# Altium schematic symbol library 100046138_output_control.SchLib: 27 symbols
Pins are listed as number, name and electrical type; pins without a type are passive.

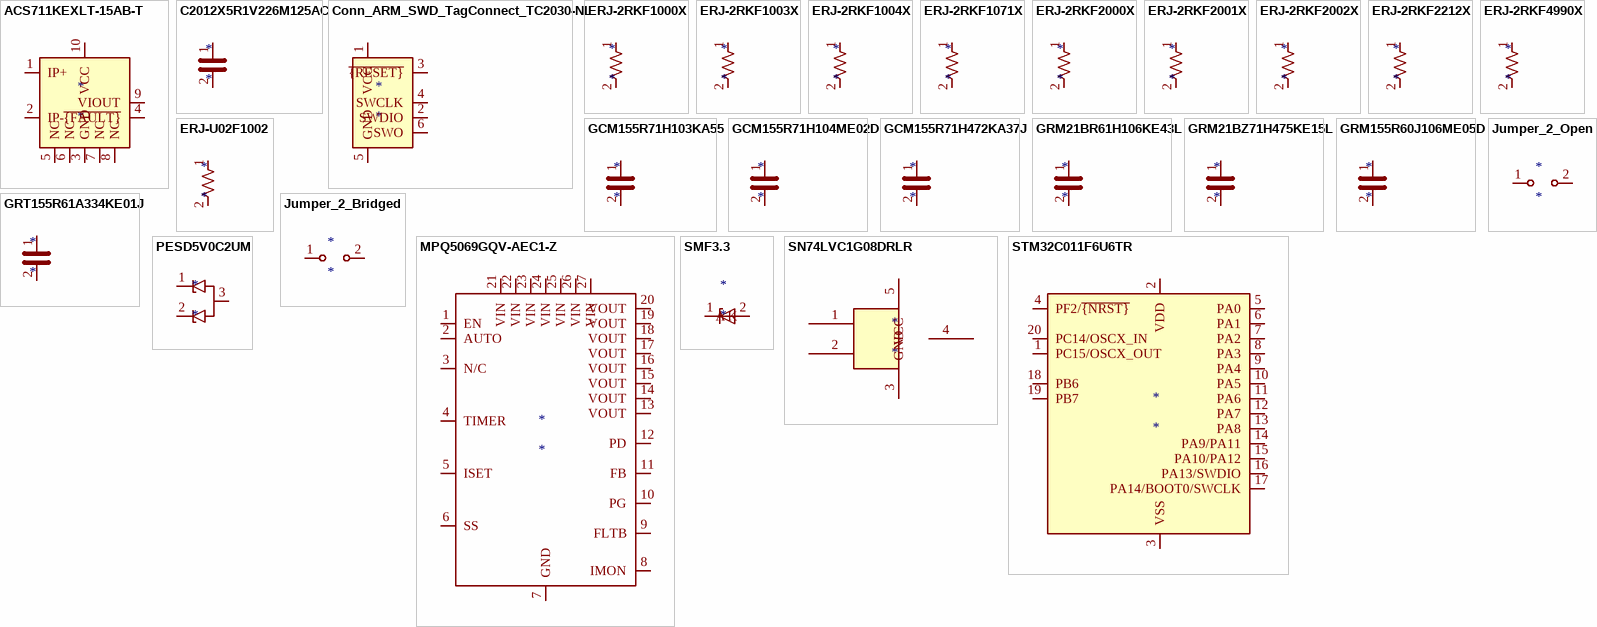
[diagram p0: symbols ACS711KEXLT-15AB-T to STM32C011F6U6TR]

## ACS711KEXLT-15AB-T
designator *
pins: 1 IP+, 2 IP-, 3 GND, 4 ~{{FAULT}}, 5 NC, 6 NC, 7 NC, 8 NC, 9 VIOUT, 10 VCC

## C2012X5R1V226M125AC
designator *
pins: 1, 2

## Conn_ARM_SWD_TagConnect_TC2030-NL
designator *
pins: 1 VCC, 2 SWDIO, 3 ~{{RESET}}, 4 SWCLK, 5 GND, 6 SWO

## ERJ-2RKF1000X
designator *
pins: 1, 2

## ERJ-2RKF1003X
designator *
pins: 1, 2

## ERJ-2RKF1004X
designator *
pins: 1, 2

## ERJ-2RKF1071X
designator *
pins: 1, 2

## ERJ-2RKF2000X
designator *
pins: 1, 2

## ERJ-2RKF2001X
designator *
pins: 1, 2

## ERJ-2RKF2002X
designator *
pins: 1, 2

## ERJ-2RKF2212X
designator *
pins: 1, 2

## ERJ-2RKF4990X
designator *
pins: 1, 2

## ERJ-U02F1002
designator *
pins: 1, 2

## GCM155R71H103KA55
designator *
pins: 1, 2

## GCM155R71H104ME02D
designator *
pins: 1, 2

## GCM155R71H472KA37J
designator *
pins: 1, 2

## GRM21BR61H106KE43L
designator *
pins: 1, 2

## GRM21BZ71H475KE15L
designator *
pins: 1, 2

## GRM155R60J106ME05D
designator *
pins: 1, 2

## GRT155R61A334KE01J
designator *
pins: 1, 2

## Jumper_2_Bridged
designator *
pins: 1 A, 2 B

## Jumper_2_Open
designator *
pins: 1 A, 2 B

## MPQ5069GQV-AEC1-Z
designator *
pins: 1 EN, 2 AUTO, 3 N/C, 4 TIMER, 5 ISET, 6 SS, 7 GND, 8 IMON, 9 FLTB, 10 PG, 11 FB, 12 PD, 13 VOUT, 14 VOUT, 15 VOUT, 16 VOUT, 17 VOUT, 18 VOUT, 19 VOUT, 20 VOUT, 21 VIN, 22 VIN, 23 VIN, 24 VIN, 25 VIN, 26 VIN, 27 VIN

## PESD5V0C2UM
designator *
pins: 1 K1, 2 K2, 3 A

## SMF3.3
designator *
pins: 1 K, 2 A

## SN74LVC1G08DRLR
designator *
pins: 1, 2, 3 GND, 4, 5 VCC

## STM32C011F6U6TR
designator *
pins: 1 PC15/OSCX_OUT, 2 VDD, 3 VSS, 4 PF2/~{{NRST}}, 5 PA0, 6 PA1, 7 PA2, 8 PA3, 9 PA4, 10 PA5, 11 PA6, 12 PA7, 13 PA8, 14 PA9/PA11, 15 PA10/PA12, 16 PA13/SWDIO, 17 PA14/BOOT0/SWCLK, 18 PB6, 19 PB7, 20 PC14/OSCX_IN